# Altium footprint library Molex Micro-Fit 3.0.PcbLib: 3 footprints
Each footprint in its own frame and in the unit in brackets; x right, y up, seen from the top. Pads: shape width x height; smd on the part's side, far side on the other; paste and mask are expansions set on the pad; w line width, h text height; cw(c..) or ccw(c..) is an arc to the next point about the centre after c.
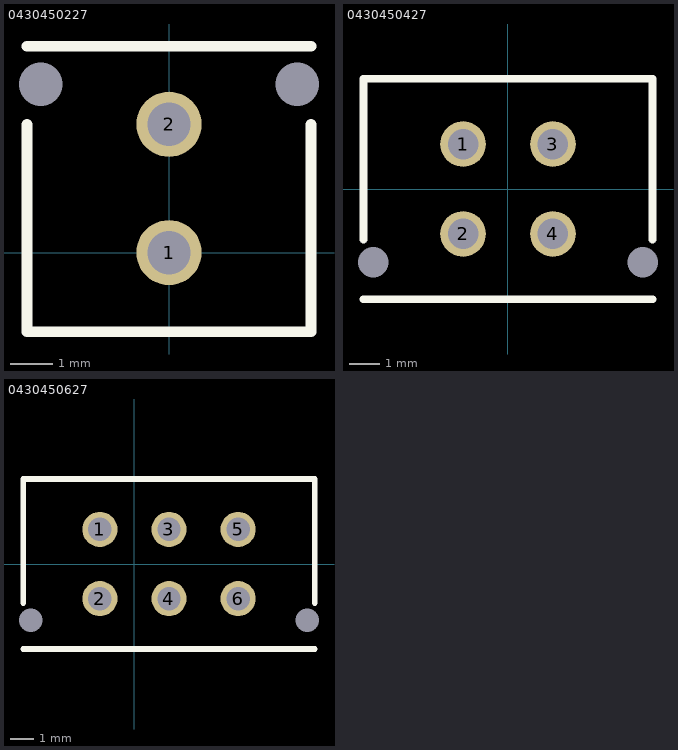
[diagram p0: the footprints below, top view; thin cyan lines are the x and y axes]

## 0430450227 [mil] "Molex Micro fit 3.0"
pads (4):
  round 60 hole 40: 1(0,0) 2(0,118.11)
  round 0 hole 40 unplated: ""(-118.11,155.12) ""(118.11,155.12)
Top Overlay:
  lines w10: -130.91,118.11 -130.91,-72.83 130.91,-72.83 130.91,118.11 ; -130.91,189.96 130.91,189.96

## 0430450427 [mil] "Molex micro-fit 3.0 4 pos"
pads (6):
  round 60 hole 40: 1(-59.06,59.06) 2(-59.06,-59.06) 3(59.06,59.06) 4(59.06,-59.06)
  round 0 hole 40 unplated: 7(177.17,-96.06) ""(-177.17,-96.06)
Top Overlay:
  lines w10: -189.96,-145.08 189.96,-145.08 ; -189.96,-66.34 -189.96,145.08 189.96,145.08 189.96,-66.34

## 0430450627 [mil] "Molex micro-fit 3.0 6 position"
pads (8):
  round 60 hole 40: 1(-59.06,59.06) 2(-59.06,-59.06) 3(59.06,59.06) 4(59.06,-59.06) 5(177.17,59.06) 6(177.17,-59.06)
  round 0 hole 40 unplated: 7(295.28,-96.06) ""(-177.17,-96.06)
Top Overlay:
  lines w10: -189.96,-145.08 308.07,-145.08 ; -189.96,-66.34 -189.96,145.08 308.07,145.08 308.07,-66.34